# Altium schematic symbol library C0402.SchLib: 13 symbols
Pins are listed as number, name and electrical type; pins without a type are passive.

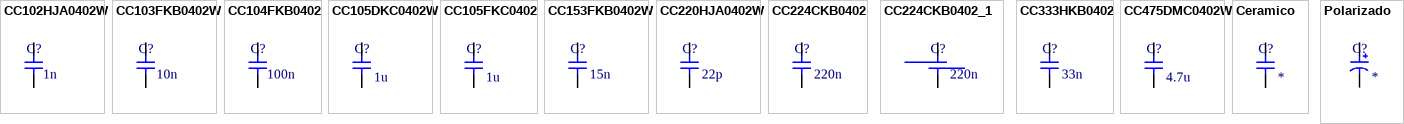
[diagram p0: symbols CC102HJA0402W to Polarizado]

## CC102HJA0402W
designator C?  value 1n
1 nF ±5% 50V Ceramic Capacitor C0G, NP0 0402 (1005 Metric); Manufacturer Part Number: GRM1555C1H102JA01D; Manufacturer: Murata Electronics; Working Temperature: -55°C ~ 125°C; Short Description: CAP CER 1000PF 50V C0G/NP0 0402; Power: NC; Ratings: REACH, ROHS3; Type: MLCC; Temperature Coefficient: C0G, NP0; Mounting: SMT; Frequency: NC; Alternate Part Number 1: *; Alternate Part Number 2: *; Tolerance: ±5%; Current: NC; Revision Date: 02/08/21; Package Reference: 0402; Voltage: 50V
footprint C0402_small
footprint C0402
pins: 1, 2

## CC103FKB0402W
designator C?  value 10n
10 nF ±10% 25V Ceramic Capacitor X7R 0402 (1005 Metric); Manufacturer Part Number: ECJ-0EB1E103K; Manufacturer: Panasonic Electronic Components; Working Temperature: -55°C ~ 125°C; Short Description: CAP CER 10000PF 25V X7R 0402; Power: NC; Type: MLCC; Temperature Coefficient: X7R; Mounting: SMT; Ratings: *; Frequency: NC; Alternate Part Number 1: *; Alternate Part Number 2: *; Tolerance: ±10%; Current: NC; Revision Date: 02/08/21; Package Reference: 0402; Voltage: 25V
footprint C0402 (Footprint not found)
pins: 1, 2

## CC104FKB0402
designator C?  value 100n
100 nF ±10% 25V Ceramic Capacitor X7R 0402 (1005 Metric); Manufacturer Part Number: CGA2B3X7R1E104K; Manufacturer: TDK Corporation; Working Temperature: -55°C ~ 125°C; Short Description: CAP CER 0.1UF 25V X7R 0402; Power: NC; Ratings: REACH, ROHS3, AEC-Q200; Type: MLCC; Temperature Coefficient: X7R; Mounting: SMT; Frequency: NC; Alternate Part Number 1: *; Alternate Part Number 2: *; Tolerance: ±10%; Current: NC; Revision Date: 02/08/21; Package Reference: 0402; Voltage: 25V
footprint C0402 (Footprint not found)
pins: 1, 2

## CC105DKC0402W
designator C?  value 1u
1 µF ±10% 16V Ceramic Capacitor X5R 0402 (1005 Metric); Manufacturer Part Number: CL05A105KO5NNNC; Manufacturer: Samsung Electro-Mechanics; Working Temperature: -55°C ~ 85°C; Short Description: CAP CER 1UF 16V X5R 0402; Power: NC; Ratings: REACH, ROHS3; Type: MLCC; Temperature Coefficient: X5R; Mounting: SMT; Frequency: NC; Alternate Part Number 1: *; Alternate Part Number 2: *; Tolerance: ±10%; Current: NC; Revision Date: 02/08/21; Package Reference: 0402; Voltage: 16V
footprint C0402 (Footprint not found)
pins: 1, 2

## CC105FKC0402
designator C?  value 1u
1 µF ±10% 25V Ceramic Capacitor X5R 0402 (1005 Metric); Manufacturer Part Number: GRT155R61E105KE01D; Manufacturer: Murata Electronics; Working Temperature: -55°C ~ 85°C; Short Description: CAP CER 1UF 25V X5R 0402; Power: NC; Ratings: REACH, ROHS3, AEC-Q200; Type: MLCC; Temperature Coefficient: X5R; Mounting: SMT; Frequency: NC; Alternate Part Number 1: *; Alternate Part Number 2: *; Tolerance: ±10%; Current: NC; Revision Date: 22/12/21; Package Reference: 0402; Voltage: 25V
footprint C0402 (Footprint not found)
pins: 1, 2

## CC153FKB0402W
designator C?  value 15n
0.015 µF ±10% 50V Ceramic Capacitor X7R 0402 (1005 Metric); Manufacturer Part Number: GCM155R71H153KA55D; Manufacturer: Murata Electronics; Working Temperature: -55°C ~ 125°C; Short Description: CAP CER 0.015UF 50V X7R 0402; Power: NC; Type: MLCC; Temperature Coefficient: X7R; Mounting: SMT; Ratings: *; Frequency: NC; Alternate Part Number 1: *; Alternate Part Number 2: *; Tolerance: ±10%; Current: NC; Revision Date: 05/05/23; Package Reference: 0402; Voltage: 50V
footprint C0402_SMALL_SMALL (Footprint not found)
pins: 1, 2

## CC220HJA0402W
designator C?  value 22p
22 pF ±5% 50V Ceramic Capacitor C0G, NP0 0402 (1005 Metric); Manufacturer Part Number: GRM1555C1H220JA01D; Manufacturer: Murata Electronics; Working Temperature: -55°C ~ 125°C; Short Description: CAP CER 22PF 50V C0G/NP0 0402; Power: NC; Type: MLCC; Temperature Coefficient: C0G, NP0; Mounting: SMT; Ratings: *; Frequency: NC; Alternate Part Number 1: *; Alternate Part Number 2: *; Tolerance: ±5%; Current: NC; Revision Date: 02/08/21; Package Reference: 0402; Voltage: 50V
footprint C0402 (Footprint not found)
footprint C0402_small
pins: 1, 2

## CC224CKB0402
designator C?  value 220n
220 nF ±10% 10V Ceramic Capacitor X7R 0402 (1005 Metric); Manufacturer Part Number: CGA2B1X7R1A224K050BC; Manufacturer: TDK Corporation; Working Temperature: -55°C ~ 125°C; Short Description: CAP CER 0.22UF 10V X7R 0402; Power: NC; Ratings: REACH, ROHS3, AEC-Q200; Type: MLCC; Temperature Coefficient: X7R; Mounting: SMT; Frequency: NC; Alternate Part Number 1: *; Alternate Part Number 2: *; Tolerance: ±10%; Current: NC; Revision Date: 02/08/21; Package Reference: 0402; Voltage: 10V
footprint C0402
footprint C0402_SMALL
pins: 1, 2

## CC224CKB0402_1
designator C?  value 220n
220 nF ±10% 10V Ceramic Capacitor X7R 0402 (1005 Metric); Manufacturer Part Number: CGA2B1X7R1A224K050BC; Manufacturer: TDK Corporation; Working Temperature: -55°C ~ 125°C; Short Description: CAP CER 0.22UF 10V X7R 0402; Power: NC; Ratings: REACH, ROHS3, AEC-Q200; Type: MLCC; Temperature Coefficient: X7R; Mounting: SMT; Frequency: NC; Alternate Part Number 1: *; Alternate Part Number 2: *; Tolerance: ±10%; Current: NC; Revision Date: 02/08/21; Package Reference: 0402; Voltage: 10V
footprint C0402
footprint C0402_SMALL
pins: 1, 2

## CC333HKB0402
designator C?  value 33n
0.033 µF ±10% 50V Ceramic Capacitor X7R 0402 (1005 Metric); Manufacturer Part Number: GCM155R71H333KE02D; Manufacturer: Murata Electronics; Working Temperature: -55°C ~ 125°C; Short Description: CAP CER 0.033UF 50V X7R 0402; Power: NC; Type: MLCC; Temperature Coefficient: X7R; Mounting: SMT; Ratings: *; Frequency: NC; Alternate Part Number 1: *; Alternate Part Number 2: *; Tolerance: ±10%; Current: NC; Revision Date: 05/05/23; Package Reference: 0402; Voltage: 50V
footprint C0402_SMALL_SMALL (Footprint not found)
pins: 1, 2

## CC475DMC0402W
designator C?  value 4.7u
4.7 µF ±20% 16V Ceramic Capacitor X5R 0402 (1005 Metric); Manufacturer Part Number: 0402YD475MAT2A; Manufacturer: AVX Corporation; Working Temperature: -55°C ~ 85°C; Short Description: CAP CER 4.7UF 16V X5R 0402; Power: NC; Ratings: REACH, ROHS3; Type: MLCC; Temperature Coefficient: X5R; Mounting: SMT; Frequency: NC; Alternate Part Number 1: *; Alternate Part Number 2: *; Tolerance: ±20%; Current: NC; Revision Date: 26/08/21; Package Reference: 0402; Voltage: 16V
footprint C0402 (Footprint not found)
pins: 1, 2

## Ceramico
designator C?
Power: NC; Manufacturer Part Number: *; Working Temperature: *; Temperature Coefficient: *; Mounting: SMT; Short Description: *; Ratings: *; Type: *; Frequency: NC; Alternate Part Number 1: *; Alternate Part Number 2: *; Manufacturer: *; Tolerance: *; Current: NC; Revision Date: 02/08/21; Package Reference: 0402; Voltage: *; Value: *
footprint C0402 (Footprint not found)
pins: 1, 2

## Polarizado
designator C?
Power: NC; Manufacturer Part Number: *; Working Temperature: *; Temperature Coefficient: *; Mounting: SMT; Short Description: *; Ratings: *; Type: *; Frequency: NC; Alternate Part Number 1: *; Alternate Part Number 2: *; Manufacturer: *; Tolerance: *; Current: NC; Revision Date: 02/08/21; Package Reference: 0402; Voltage: *; Value: *
footprint C0402 (Footprint not found)
pins: 1, 2